# Altium footprint library SDCard-SIMCard.PcbLib: 5 footprints
Each footprint in its own frame and in the unit in brackets; x right, y up, seen from the top. Pads: shape width x height; smd on the part's side, far side on the other; paste and mask are expansions set on the pad; w line width, h text height; cw(c..) or ccw(c..) is an arc to the next point about the centre after c.
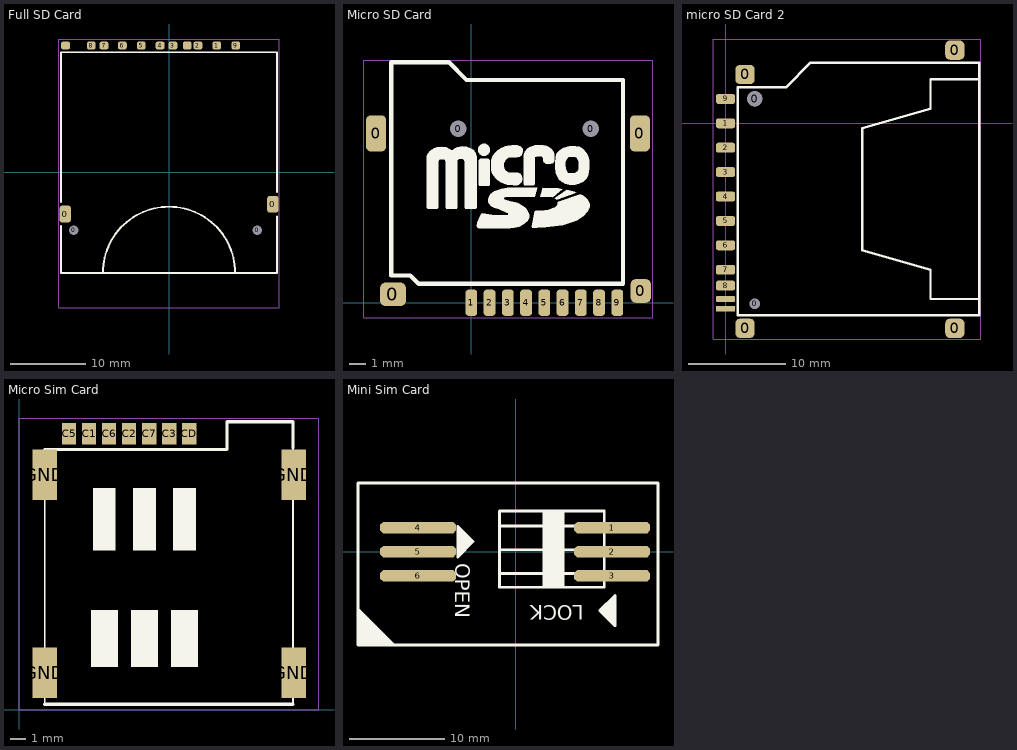
[diagram p0: the footprints below, top view; thin cyan lines are the x and y axes]

## Full SD Card [mil]
pads (15):
  rrect50% 60x88 smd: 0(-541,-217) 0(541,-166)
  round 40 hole 50 mask+0: 0(-496,-301) 0(460,-302)
  rrect50% 46x40 smd: 1(249.02,661) 2(150.59,661) 3(20.67,661) 4(-46.26,661) 5(-144.69,661) 6(-243.11,661) 7(-338.58,661) 8(-405.51,661) 9(347.44,661) 10(95.47,661) 11(-538.58,661)
Top Overlay:
  lines w10: -562.2,-280 -562.2,-524 562.2,-524 562.2,-229 ; -562.2,-154 -562.2,626 562.2,626 562.2,-103 ; -344.49,-522.5 cw(c0,-523.5) 344.49,-522.5
T-Component:
  lines w2: -575,-705 575,-705 575,695 -575,695 -575,-705
3D body "User Library-SD Card-1.STEP": height 85.59, standoff 34.41, extent -477.44,-794.19 467.44,465.65
3D body "User Library-socket_a-sd-09-d-a-1-3.STEP": height 104.33, standoff -27.56, extent -571.93,-522.41 561.93,670.5

## Micro SD Card [mil]
pads (15):
  rrect50% 48x86 smd: 0(-226,402) 0(400,402)
  rrect50% 62x56 smd: 0(-186,20)
  round 30 hole 39.37 mask+0: 0(-31.5,413.39) 0(283.46,413.39)
  rrect50% 48x56 smd: 0(402,28)
  rrect50% 28x62 smd: 1(0,0) 2(43.31,0) 3(86.61,0) 4(129.92,0) 5(173.23,0) 6(216.54,0) 7(259.84,0) 8(303.15,0) 9(346.46,0)
Top Overlay:
  drawing of 18 lines, arcs and shapes, not listed
T-Component:
  lines w2: -255,-35 -255,575 430,575 430,-35 -255,-35
3D body "User Library-Micro SD.STEP": height 78.76, standoff -18.62, extent -235.25,-26.82 406.74,572

## micro SD Card 2 [mil]
pads (17):
  rrect50% 78x78 smd: 0(78.74,-826.77) 0(78.74,196.85) 0(925.2,-826.77) 0(925.2,295.28)
  round 40 hole 43.31 mask+0: 0(118.11,-728.35)
  round 60 hole 62.99 mask+0: 0(118.11,98.42)
  rrect50% 78x40 smd: 1(0,0) 2(0,-98.43) 3(0,-196.85) 4(0,-295.28) 5(0,-393.7) 6(0,-492.13) 7(0,-590.55) 8(0,-654.53) 9(0,98.42)
  rrect50% 78x24 smd: 10(0,-708.66) 11(0,-748.03)
Top Overlay:
  lines w10: 1023.62,-708.66 826.77,-708.66 826.77,-590.55 551.18,-511.81 551.18,-19.69 826.77,59.05 826.77,177.16 1023.62,177.16 ; 50,-775 1023.62,-775 1023.62,245 343.42,245 243.43,145 50,145 50,-775
T-Component:
  lines w2: -50,-870 -50,340 1030,340 1030,-870 -50,-870
3D body "User Library-2041021-4.step": height 130.52, standoff -23.02, extent -8,-821 1025.47,280.38
3D body "User Library-SD Card-1.STEP": height 85.59, standoff 34.41, extent 200.08,-737.44 1459.92,207.45

## Micro Sim Card [mm] "SI32C-01203-6Pin"
pads (11):
  rect 0.9x1.35 smd: C1(4.445,17.501) C2(6.985,17.501) C3(9.525,17.501) C5(3.175,17.501) C6(5.715,17.501) C7(8.255,17.501) CD(10.795,17.501)
  rect 1.55x3.2 smd: GND(1.626,2.346) GND(1.626,14.896) GND(17.424,2.346) GND(17.424,14.896)
Top Overlay:
  region: 9.647,2.741 11.347,2.741 11.347,6.321 9.647,6.321
  region: 4.717,10.121 6.117,10.121 6.117,14.061 4.717,14.061
  region: 4.567,2.741 6.267,2.741 6.267,6.321 4.567,6.321
  region: 7.107,2.741 8.807,2.741 8.807,6.321 7.107,6.321
  region: 9.797,10.121 11.197,10.121 11.197,14.061 9.797,14.061
  region: 7.257,10.121 8.657,10.121 8.657,14.061 7.257,14.061
  lines w0.1: 13.213,16.485 13.213,17.628 ; 13.213,18.263 17.375,18.263 ; 17.375,17.628 17.375,0.356 ; 1.625,0.356 17.375,0.356 ; 1.625,0.356 17.375,0.356 ; 1.625,0.356 1.625,16.516 ; 1.625,16.516 13.213,16.516 1.625,16.516
  lines w0.2: 1.625,0.356 17.375,0.356 ; 1.625,16.346 1.625,16.516 13.183,16.516 13.183,18.263 17.375,18.263 17.375,16.612
Mechanical 16:
  lines w0.05: 0,-0.004 19,-0.004 19,18.496 0,18.496 0,-0.004

## Mini Sim Card [mm] "6Pin"
pads (6):
  oct 8x1.2 smd: 1(10.138,2.54) 2(10.138,0) 3(10.138,-2.54) 4(-10.238,2.54) 5(-10.238,0) 6(-10.238,-2.54)
Top Overlay:
  rectangle: 2.829,-3.79 5.13,4.262
  region: -16.562,-6.019 -12.786,-9.795 -16.562,-9.795
  region: 10.45,-4.585 10.45,-7.785 8.85,-6.185
  lines w0.254: -16.562,-6.019 -12.786,-9.795
  lines w0.3: -5.874,2.214 -5.874,-0.087 -4.823,0.963 -4.823,1.113 -5.724,2.014 ; -5.724,0.413 -5.724,1.864 ; -5.524,1.614 -5.524,0.563 -5.474,0.513 ; -5.373,0.663 -5.073,0.963 ; -5.373,1.564 -5.373,0.963 -5.273,0.863 ; -5.223,1.364 -5.223,1.063 -5.173,1.013 ; -5.023,1.113 -5.023,1.163 ; -1.689,-2.287 9.311,-2.287 ; -1.689,0.213 9.311,0.213 ; -1.689,2.714 9.311,2.714 ; -16.562,-9.795 -16.562,7.213 14.962,7.213 14.962,-9.795 -16.562,-9.795 ; -6.074,-0.537 -6.074,2.664 -4.473,1.063 -6.074,-0.537 ; -1.689,-3.738 9.311,-3.738 9.311,4.262 -1.689,4.262 -1.689,-3.738 ; 8.85,-6.185 10.45,-7.785 10.45,-4.585 8.85,-6.185
  text "OPEN" at -6.362,-1.211 h1.52
  text "LOCK" at 7.138,-5.611 h1.52
3D body "User Library-SIM5060-6-0-26-01-A.STEP": height 2.6, standoff -0.7, extent -16.41,-9.87 13.23,7.33